# Altium schematic symbol library ATECC508A.SchLib: 1 symbol
Pins are listed as number, name and electrical type; pins without a type are passive.

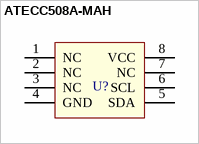
[diagram p0: symbol ATECC508A-MAH]

## ATECC508A-MAH
designator U?  (value not drawn)
pins: 1 NC, 2 NC, 3 NC, 4 GND, 5 SDA, 6 SCL, 7 NC, 8 VCC